# Altium integrated library Linear Technology Power Management Switching Regulator LTC1174-LTC3901.IntLib: 2647 symbols (part 203 of 364)
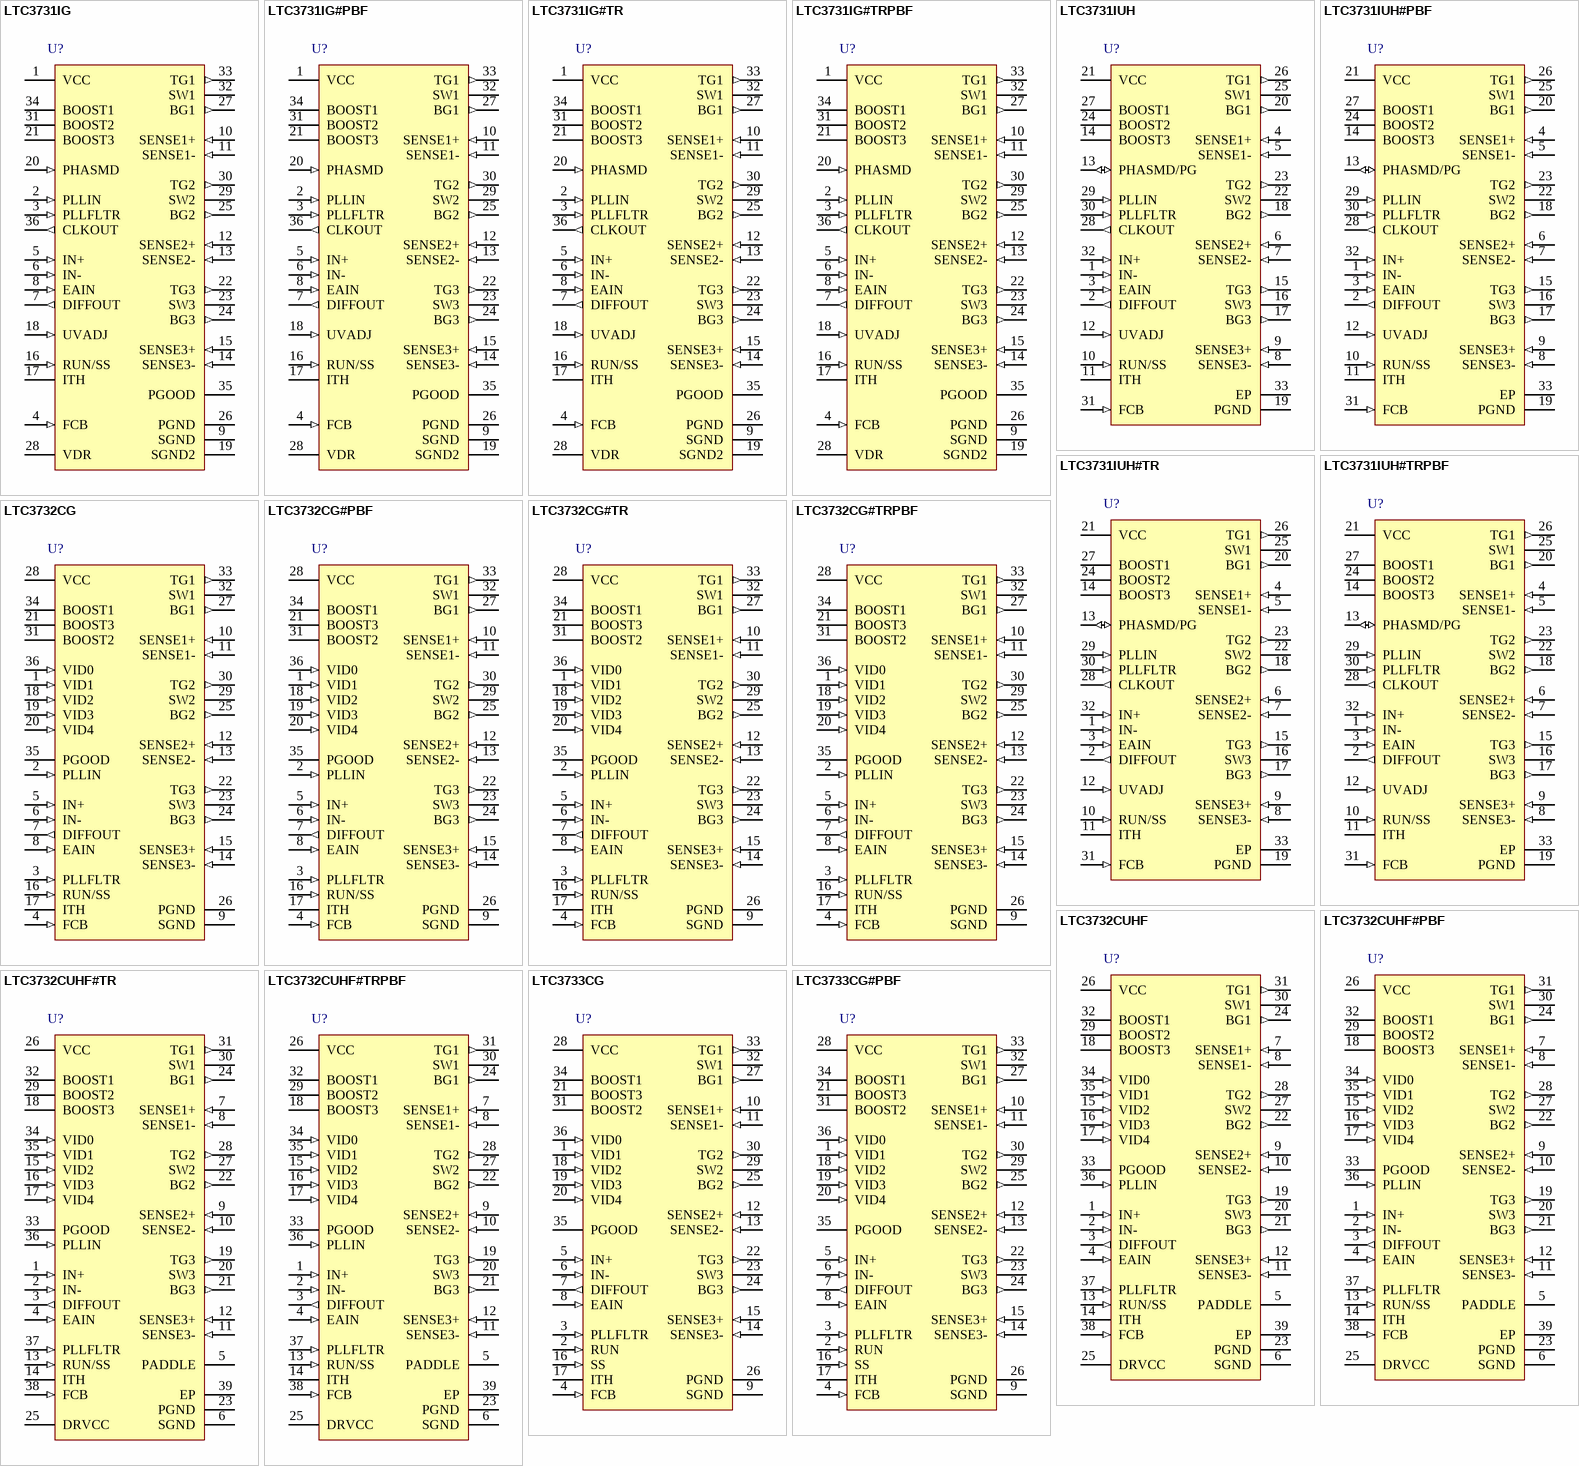
[diagram p220: symbols LTC3731IG to LTC3733CG#PBF]

## LTC3732CUHF#TRPBF
designator U?
3-Phase, 5-Bit VID, 600kHz, Synchronous Buck Switching Regulator Controller, 38-pin QFN (UHF-38), 0 to 70 degC, Pb-Free, Tape and Reel; Manufacturer: Linear Technology; PartNumber: LTC3732CUHF#TRPBF; Frequency Sync Range: 250kHz - 600kHz; Number of Outputs: 1; PackageVersion: Rev. C, 06/2010; PackageReference: UHF-38; PackageDescription: 38-Pin Plastic QFN, Body 7 x 5 mm, Pitch 0.5 mm; Supplier 1: Digi-Key; Supplier Part Number 1: LTC3732CUHF#TRPBF-ND; Supplier 2: Newark; Supplier Part Number 2: 56M8301; Packing: Tape and Reel; RoHS: TRUE; Mounting Technology: Surface Mount; Code_JEDEC: MO-220; ComponentLink1Description: Manufacturer URL; ComponentLink1URL: http://www.linear.com/; ComponentLink2Description: Datasheet; ComponentLink2URL: http://cds.linear.com/docs/en/datasheet/3732f.pdf; ComponentLink3Description: Package Specification; ComponentLink3URL: http://cds.linear.com/docs/en/packaging/QFN_38_05-08-1701.pdf
footprint LT-UHF-38_N (QFN, 38-Leads, Body 7.1x5.1mm, Pitch 0.5mm, Thermal Pad 3.15x5.15mm, IPC Medium Density)
footprint LT-UHF-38_L (QFN, 38-Leads, Body 7.1x5.1mm, Pitch 0.5mm, Thermal Pad 3.15x5.15mm, IPC High Density)
footprint LT-UHF-38_M (QFN, 38-Leads, Body 7.1x5.1mm, Pitch 0.5mm, Thermal Pad 3.15x5.15mm, IPC Low Density)
pins: 1 IN+ (in) "Inputs to a precision, unity-gain differential amplifier with internal precision resistors. This provides true remote sensing of both the positive and negative load terminals for precise output voltage control.", 2 IN- (in) "Inputs to a precision, unity-gain differential amplifier with internal precision resistors. This provides true remote sensing of both the positive and negative load terminals for precise output voltage control.", 3 DIFFOUT (out) "Output of the Remote Output Voltage Sensing Differential Amplifier.", 4 EAIN (in) "This is the input to the error amplifier which compares the VID divided, feedback voltage to the internal 0.6V reference voltage.", 5 PADDLE (power) "This pin is connected to the heat spreading metal pad at the center of the package bottom and is tied to the IC¡¯s substrate. It must be connected to the SGND pin.", 6 SGND (power) "Signal Ground. This pin must be routed separately under the IC to the PGND pin and then to the main ground plane.", 7 SENSE1+ (in) "The Inputs to Each Differential Current Comparator. The ITH pin voltage and built-in offsets between SENSE- and SENSE+ pins, in conjunction with RSENSE, set the current trip threshold level.", 8 SENSE1- (in) "The Inputs to Each Differential Current Comparator. The ITH pin voltage and built-in offsets between SENSE- and SENSE+ pins, in conjunction with RSENSE, set the current trip threshold level.", 9 SENSE2+ (in) "The Inputs to Each Differential Current Comparator. The ITH pin voltage and built-in offsets between SENSE- and SENSE+ pins, in conjunction with RSENSE, set the current trip threshold level.", 10 SENSE2- (in) "The Inputs to Each Differential Current Comparator. The ITH pin voltage and built-in offsets between SENSE- and SENSE+ pins, in conjunction with RSENSE, set the current trip threshold level.", 11 SENSE3- (in) "The Inputs to Each Differential Current Comparator. The ITH pin voltage and built-in offsets between SENSE- and SENSE+ pins, in conjunction with RSENSE, set the current trip threshold level.", 12 SENSE3+ (in) "The Inputs to Each Differential Current Comparator. The ITH pin voltage and built-in offsets between SENSE- and SENSE+ pins, in conjunction with RSENSE, set the current trip threshold level.", 13 RUN/SS (in) "Combination of Soft-Start, Run Control Input and Short-Circuit Detection Timer. A capacitor to ground at this pin sets the ramp time to full current output as well as the time delay prior to an output voltage short-circuit (See Datasheet)", 14 ITH "Error Amplifier Output and Switching Regulator Compensation Point. All three current comparator¡¯s thresholds increase with this control voltage.", 15 VID2 (in) "Output Voltage Programming Input Pins. A 3uA internal pull-up current is provided on each input pin. See Table 1 for details. Do not apply voltage to these pins prior to the application of voltage on the VCC pin.", 16 VID3 (in) "Output Voltage Programming Input Pins. A 3uA internal pull-up current is provided on each input pin. See Table 1 for details. Do not apply voltage to these pins prior to the application of voltage on the VCC pin.", 17 VID4 (in) "Output Voltage Programming Input Pins. A 3uA internal pull-up current is provided on each input pin. See Table 1 for details. Do not apply voltage to these pins prior to the application of voltage on the VCC pin.", 18 BOOST3 "Positive Supply Pins to the Topside Floating Drivers. Bootstrapped capacitors, charged with external Schottky diodes and a boost voltage source, are connected between the BOOST and SW pins. Voltage swing at the BOOST pins is (See Datasheet)", 19 TG3 (out) "High Current Gate Drives for Top N-channel MOSFETs. These are the outputs of floating drivers with a voltage swing equal to the boost voltage source superimposed on the switch node voltage SW.", 20 SW3 "Switch Node Connections to Inductors. Voltage swing at these pins is from a Schottky diode (external) voltage drop below ground to VIN (where VIN is the external MOSFET supply rail).", 21 BG3 (out) "High Current Gate Drives for Bottom NChannel MOSFETs. Voltage swing at these pins is from ground to VCC.", 22 BG2 (out) "High Current Gate Drives for Bottom NChannel MOSFETs. Voltage swing at these pins is from ground to VCC.", 23 PGND (power) "Driver Power Ground. This pin connects directly to the sources of the bottom N-channel external MOSFETs and the (-) terminals of CIN.", 24 BG1 (out) "High Current Gate Drives for Bottom NChannel MOSFETs. Voltage swing at these pins is from ground to VCC.", 25 DRVCC (power) "This pin provides power to the bottom MOSFET on-chip drivers. Tie this pin to the VCC pin and carefully decouple this pin to the PGND pin with a minimum of 5uF of ceramic capacitance immediately adjacent to the IC package.", 26 VCC (power) "Main Supply Pin. Because this pin supplies both the controller circuit power as well as the high power pulses supplied to drive the external MOSFET gates, this pin needs to be very carefully and closely decoupled to the (See Datasheet)", 27 SW2 "Switch Node Connections to Inductors. Voltage swing at these pins is from a Schottky diode (external) voltage drop below ground to VIN (where VIN is the external MOSFET supply rail).", 28 TG2 (out) "High Current Gate Drives for Top N-channel MOSFETs. These are the outputs of floating drivers with a voltage swing equal to the boost voltage source superimposed on the switch node voltage SW.", 29 BOOST2 "Positive Supply Pins to the Topside Floating Drivers. Bootstrapped capacitors, charged with external Schottky diodes and a boost voltage source, are connected between the BOOST and SW pins. Voltage swing at the BOOST pins is (See Datasheet)", 30 SW1 "Switch Node Connections to Inductors. Voltage swing at these pins is from a Schottky diode (external) voltage drop below ground to VIN (where VIN is the external MOSFET supply rail).", 31 TG1 (out) "High Current Gate Drives for Top N-channel MOSFETs. These are the outputs of floating drivers with a voltage swing equal to the boost voltage source superimposed on the switch node voltage SW.", 32 BOOST1 "Positive Supply Pins to the Topside Floating Drivers. Bootstrapped capacitors, charged with external Schottky diodes and a boost voltage source, are connected between the BOOST and SW pins. Voltage swing at the BOOST pins is (See Datasheet)", 33 PGOOD (oc) "This open-drain output is pulled low when the output voltage has been outside the PGOOD tolerance window for the VPGDLY delay of approximately 100us.", 34 VID0 (in) "Output Voltage Programming Input Pins. A 3uA internal pull-up current is provided on each input pin. See Table 1 for details. Do not apply voltage to these pins prior to the application of voltage on the VCC pin.", 35 VID1 (in) "Output Voltage Programming Input Pins. A 3uA internal pull-up current is provided on each input pin. See Table 1 for details. Do not apply voltage to these pins prior to the application of voltage on the VCC pin.", 36 PLLIN (in) "Synchronization Input to Phase Detector. This pin is internally terminated to SGND with 50kohm. The phaselocked loop will force the rising top gate signal of controller 1 to be synchronized with the rising edge of the PLLIN (See Datasheet)", 37 PLLFLTR (in) "The phase-locked loop¡¯s lowpass filter is tied to this pin. Alternatively, this pin can be driven with an AC or DC voltage source to vary the frequency of the internal oscillator. (Do not apply voltage directly to this pi(See Datasheet)", 38 FCB (in) "Forced Continuous Control Input. The voltage applied to this pin sets the operating mode of the controller. The forced continuous current mode is active when the applied voltage is less than 0.6V. Burst Mode operation will (See Datasheet)", 39 EP (power) "Signal Ground. This pin must be routed separately under the IC to the PGND pin and then to the main ground plane."

## LTC3733CG
designator U?
3-Phase, Buck Controller for AMD CPU, 36-pin SOP (G-36), 0 to 70 degC; Manufacturer: Linear Technology; PartNumber: LTC3733CG; Frequency Sync Range: 210kHz - 530kHz; Number of Outputs: 1; PackageReference: G-36; PackageDescription: 36-Pin Plastic SSOP, Body 12.8 x 5.3 mm, Pitch 0.65 mm; Supplier 1: Digi-Key; Supplier Part Number 1: LTC3733CG-ND; RoHS: FALSE; Mounting Technology: Surface Mount; ComponentLink1Description: Manufacturer URL; ComponentLink1URL: http://www.linear.com/; ComponentLink2Description: Datasheet; ComponentLink2URL: http://cds.linear.com/docs/en/datasheet/3733f.pdf; ComponentLink3Description: Package Specification; ComponentLink3URL: http://cds.linear.com/docs/en/packaging/SSOP_36_05-08-1640.pdf
footprint LT-G-36_N (SOP, 36-Leads, Body 13.1x5.6mm, Pitch 0.65mm, IPC Medium Density)
footprint LT-G-36_L (SOP, 36-Leads, Body 13.1x5.6mm, Pitch 0.65mm, IPC High Density)
footprint LT-G-36_M (SOP, 36-Leads, Body 13.1x5.6mm, Pitch 0.65mm, IPC Low Density)
pins: 1 VID1 (in) "Output Voltage Programming Input Pins. A 150k internal pull-up resistor is provided on each input pin. See Table 1 for details. Do not apply voltage to these pins prior to the application of voltage on the VCC pin.", 2 RUN (in) "ON/OFF Control of the LTC3733.", 3 PLLFLTR (in) "The phase-locked loop¡¯s lowpass filter is tied to this pin. Alternatively, this pin can be driven with an AC or DC voltage source to vary the frequency of the internal oscillator. (Do not apply voltage to this pin prior t(See Datasheet)", 4 FCB (in) "Forced Continuous Control Input. The voltage applied to this pin sets the operating mode of the controller. The forced continuous current mode is active when the applied voltage is less than 0.6V. Burst Mode operation will (See Datasheet)", 5 IN+ (in) "Inputs to a precision, unitygain differential amplifier with internal precision resistors. This provides true remote sensing of both the positive and negative load terminals for precise output voltage control.", 6 IN- (in) "Inputs to a precision, unitygain differential amplifier with internal precision resistors. This provides true remote sensing of both the positive and negative load terminals for precise output voltage control.", 7 DIFFOUT (out) "Output of the Remote Output Voltage Sensing Differential Amplifier.", 8 EAIN (in) "This is the input to the error amplifier which compares the VID divided, feedback voltage to the internal 0.6V reference voltage.", 9 SGND (power) "Signal Ground. This pin must be routed separately under the IC to the PGND pin and then to the main ground plane. The exposed pad (QFN) must be soldered to the PCB for optimal thermal performance.", 10 SENSE1+ (in) "The Inputs to Each Differential Current Comparator. The ITH pin voltage and built-in offsets between SENSE- and SENSE+ pins, in conjunction with RSENSE, set the current trip threshold level.", 11 SENSE1- (in) "The Inputs to Each Differential Current Comparator. The ITH pin voltage and built-in offsets between SENSE- and SENSE+ pins, in conjunction with RSENSE, set the current trip threshold level.", 12 SENSE2+ (in) "The Inputs to Each Differential Current Comparator. The ITH pin voltage and built-in offsets between SENSE- and SENSE+ pins, in conjunction with RSENSE, set the current trip threshold level.", 13 SENSE2- (in) "The Inputs to Each Differential Current Comparator. The ITH pin voltage and built-in offsets between SENSE- and SENSE+ pins, in conjunction with RSENSE, set the current trip threshold level.", 14 SENSE3- (in) "The Inputs to Each Differential Current Comparator. The ITH pin voltage and built-in offsets between SENSE- and SENSE+ pins, in conjunction with RSENSE, set the current trip threshold level.", 15 SENSE3+ (in) "The Inputs to Each Differential Current Comparator. The ITH pin voltage and built-in offsets between SENSE- and SENSE+ pins, in conjunction with RSENSE, set the current trip threshold level.", 16 SS (in) "Combination of Soft-Start and Short- Circuit Detection Timer. A capacitor to ground at this pin sets the ramp time to full current output as well as the time delay prior to an output voltage short-circuit shutdown. A minimum (See Datasheet)", 17 ITH "Error Amplifier Output and Switching Regulator Compensation Point. All three current comparator¡¯s thresholds increase with this control voltage.", 18 VID2 (in) "Output Voltage Programming Input Pins. A 150k internal pull-up resistor is provided on each input pin. See Table 1 for details. Do not apply voltage to these pins prior to the application of voltage on the VCC pin.", 19 VID3 (in) "Output Voltage Programming Input Pins. A 150k internal pull-up resistor is provided on each input pin. See Table 1 for details. Do not apply voltage to these pins prior to the application of voltage on the VCC pin.", 20 VID4 (in) "Output Voltage Programming Input Pins. A 150k internal pull-up resistor is provided on each input pin. See Table 1 for details. Do not apply voltage to these pins prior to the application of voltage on the VCC pin.", 21 BOOST3 "Positive Supply Pins to the Topside Floating Drivers. Bootstrapped capacitors, charged with external Schottky diodes and a boost voltage source, are connected between the BOOST and SW pins. Voltage swing at the BOOST pins is (See Datasheet)", 22 TG3 (out) "High Current Gate Drives for Top N-channel MOSFETs. These are the outputs of floating drivers with a voltage swing equal to the boost voltage source superimposed on the switch node voltage SW.", 23 SW3 "Switch Node Connections to Inductors. Voltage swing at these pins is from a Schottky diode (external) voltage drop below ground to VIN (where VIN is the external MOSFET supply rail).", 24 BG3 (out) "High Current Gate Drives for Bottom N-Channel MOSFETs. Voltage swing at these pins is from ground to VCC.", 25 BG2 (out) "High Current Gate Drives for Bottom N-Channel MOSFETs. Voltage swing at these pins is from ground to VCC.", 26 PGND (power) "Driver Power Ground. This pin connects to the sources of the bottom N-channel external MOSFETs and the (-) terminals of CIN.", 27 BG1 (out) "High Current Gate Drives for Bottom N-Channel MOSFETs. Voltage swing at these pins is from ground to VCC.", 28 VCC (power) "Main Supply Pin. This pin supplies the controller circuit power. In the G36 package, it is also the high power supply to drive the external MOSFET gates and this pin needs to be closely decoupled to the IC¡¯s PGND pin.", 29 SW2 "Switch Node Connections to Inductors. Voltage swing at these pins is from a Schottky diode (external) voltage drop below ground to VIN (where VIN is the external MOSFET supply rail).", 30 TG2 (out) "High Current Gate Drives for Top N-channel MOSFETs. These are the outputs of floating drivers with a voltage swing equal to the boost voltage source superimposed on the switch node voltage SW.", 31 BOOST2 "Positive Supply Pins to the Topside Floating Drivers. Bootstrapped capacitors, charged with external Schottky diodes and a boost voltage source, are connected between the BOOST and SW pins. Voltage swing at the BOOST pins is (See Datasheet)", 32 SW1 "Switch Node Connections to Inductors. Voltage swing at these pins is from a Schottky diode (external) voltage drop below ground to VIN (where VIN is the external MOSFET supply rail).", 33 TG1 (out) "High Current Gate Drives for Top N-channel MOSFETs. These are the outputs of floating drivers with a voltage swing equal to the boost voltage source superimposed on the switch node voltage SW.", 34 BOOST1 "Positive Supply Pins to the Topside Floating Drivers. Bootstrapped capacitors, charged with external Schottky diodes and a boost voltage source, are connected between the BOOST and SW pins. Voltage swing at the BOOST pins is (See Datasheet)", 35 PGOOD (oc) "This open-drain output is pulled low when the output voltage is outside the PGOOD tolerance window. PGOOD is blanked during VID transitions for approximately 120us.", 36 VID0 (in) "Output Voltage Programming Input Pins. A 150k internal pull-up resistor is provided on each input pin. See Table 1 for details. Do not apply voltage to these pins prior to the application of voltage on the VCC pin."

## LTC3733CG#PBF
designator U?
3-Phase, Buck Controller for AMD CPU, 36-pin SOP (G-36), 0 to 70 degC, Pb-Free; Manufacturer: Linear Technology; PartNumber: LTC3733CG#PBF; Frequency Sync Range: 210kHz - 530kHz; Number of Outputs: 1; PackageReference: G-36; PackageDescription: 36-Pin Plastic SSOP, Body 12.8 x 5.3 mm, Pitch 0.65 mm; Supplier 1: Digi-Key; Supplier Part Number 1: LTC3733CG#PBF-ND; Supplier 2: Newark; Supplier Part Number 2: 56M8303; RoHS: TRUE; Mounting Technology: Surface Mount; ComponentLink1Description: Manufacturer URL; ComponentLink1URL: http://www.linear.com/; ComponentLink2Description: Datasheet; ComponentLink2URL: http://cds.linear.com/docs/en/datasheet/3733f.pdf; ComponentLink3Description: Package Specification; ComponentLink3URL: http://cds.linear.com/docs/en/packaging/SSOP_36_05-08-1640.pdf
footprint LT-G-36_N (SOP, 36-Leads, Body 13.1x5.6mm, Pitch 0.65mm, IPC Medium Density)
footprint LT-G-36_L (SOP, 36-Leads, Body 13.1x5.6mm, Pitch 0.65mm, IPC High Density)
footprint LT-G-36_M (SOP, 36-Leads, Body 13.1x5.6mm, Pitch 0.65mm, IPC Low Density)
pins: 1 VID1 (in) "Output Voltage Programming Input Pins. A 150k internal pull-up resistor is provided on each input pin. See Table 1 for details. Do not apply voltage to these pins prior to the application of voltage on the VCC pin.", 2 RUN (in) "ON/OFF Control of the LTC3733.", 3 PLLFLTR (in) "The phase-locked loop¡¯s lowpass filter is tied to this pin. Alternatively, this pin can be driven with an AC or DC voltage source to vary the frequency of the internal oscillator. (Do not apply voltage to this pin prior t(See Datasheet)", 4 FCB (in) "Forced Continuous Control Input. The voltage applied to this pin sets the operating mode of the controller. The forced continuous current mode is active when the applied voltage is less than 0.6V. Burst Mode operation will (See Datasheet)", 5 IN+ (in) "Inputs to a precision, unitygain differential amplifier with internal precision resistors. This provides true remote sensing of both the positive and negative load terminals for precise output voltage control.", 6 IN- (in) "Inputs to a precision, unitygain differential amplifier with internal precision resistors. This provides true remote sensing of both the positive and negative load terminals for precise output voltage control.", 7 DIFFOUT (out) "Output of the Remote Output Voltage Sensing Differential Amplifier.", 8 EAIN (in) "This is the input to the error amplifier which compares the VID divided, feedback voltage to the internal 0.6V reference voltage.", 9 SGND (power) "Signal Ground. This pin must be routed separately under the IC to the PGND pin and then to the main ground plane. The exposed pad (QFN) must be soldered to the PCB for optimal thermal performance.", 10 SENSE1+ (in) "The Inputs to Each Differential Current Comparator. The ITH pin voltage and built-in offsets between SENSE- and SENSE+ pins, in conjunction with RSENSE, set the current trip threshold level.", 11 SENSE1- (in) "The Inputs to Each Differential Current Comparator. The ITH pin voltage and built-in offsets between SENSE- and SENSE+ pins, in conjunction with RSENSE, set the current trip threshold level.", 12 SENSE2+ (in) "The Inputs to Each Differential Current Comparator. The ITH pin voltage and built-in offsets between SENSE- and SENSE+ pins, in conjunction with RSENSE, set the current trip threshold level.", 13 SENSE2- (in) "The Inputs to Each Differential Current Comparator. The ITH pin voltage and built-in offsets between SENSE- and SENSE+ pins, in conjunction with RSENSE, set the current trip threshold level.", 14 SENSE3- (in) "The Inputs to Each Differential Current Comparator. The ITH pin voltage and built-in offsets between SENSE- and SENSE+ pins, in conjunction with RSENSE, set the current trip threshold level.", 15 SENSE3+ (in) "The Inputs to Each Differential Current Comparator. The ITH pin voltage and built-in offsets between SENSE- and SENSE+ pins, in conjunction with RSENSE, set the current trip threshold level.", 16 SS (in) "Combination of Soft-Start and Short- Circuit Detection Timer. A capacitor to ground at this pin sets the ramp time to full current output as well as the time delay prior to an output voltage short-circuit shutdown. A minimum (See Datasheet)", 17 ITH "Error Amplifier Output and Switching Regulator Compensation Point. All three current comparator¡¯s thresholds increase with this control voltage.", 18 VID2 (in) "Output Voltage Programming Input Pins. A 150k internal pull-up resistor is provided on each input pin. See Table 1 for details. Do not apply voltage to these pins prior to the application of voltage on the VCC pin.", 19 VID3 (in) "Output Voltage Programming Input Pins. A 150k internal pull-up resistor is provided on each input pin. See Table 1 for details. Do not apply voltage to these pins prior to the application of voltage on the VCC pin.", 20 VID4 (in) "Output Voltage Programming Input Pins. A 150k internal pull-up resistor is provided on each input pin. See Table 1 for details. Do not apply voltage to these pins prior to the application of voltage on the VCC pin.", 21 BOOST3 "Positive Supply Pins to the Topside Floating Drivers. Bootstrapped capacitors, charged with external Schottky diodes and a boost voltage source, are connected between the BOOST and SW pins. Voltage swing at the BOOST pins is (See Datasheet)", 22 TG3 (out) "High Current Gate Drives for Top N-channel MOSFETs. These are the outputs of floating drivers with a voltage swing equal to the boost voltage source superimposed on the switch node voltage SW.", 23 SW3 "Switch Node Connections to Inductors. Voltage swing at these pins is from a Schottky diode (external) voltage drop below ground to VIN (where VIN is the external MOSFET supply rail).", 24 BG3 (out) "High Current Gate Drives for Bottom N-Channel MOSFETs. Voltage swing at these pins is from ground to VCC.", 25 BG2 (out) "High Current Gate Drives for Bottom N-Channel MOSFETs. Voltage swing at these pins is from ground to VCC.", 26 PGND (power) "Driver Power Ground. This pin connects to the sources of the bottom N-channel external MOSFETs and the (-) terminals of CIN.", 27 BG1 (out) "High Current Gate Drives for Bottom N-Channel MOSFETs. Voltage swing at these pins is from ground to VCC.", 28 VCC (power) "Main Supply Pin. This pin supplies the controller circuit power. In the G36 package, it is also the high power supply to drive the external MOSFET gates and this pin needs to be closely decoupled to the IC¡¯s PGND pin.", 29 SW2 "Switch Node Connections to Inductors. Voltage swing at these pins is from a Schottky diode (external) voltage drop below ground to VIN (where VIN is the external MOSFET supply rail).", 30 TG2 (out) "High Current Gate Drives for Top N-channel MOSFETs. These are the outputs of floating drivers with a voltage swing equal to the boost voltage source superimposed on the switch node voltage SW.", 31 BOOST2 "Positive Supply Pins to the Topside Floating Drivers. Bootstrapped capacitors, charged with external Schottky diodes and a boost voltage source, are connected between the BOOST and SW pins. Voltage swing at the BOOST pins is (See Datasheet)", 32 SW1 "Switch Node Connections to Inductors. Voltage swing at these pins is from a Schottky diode (external) voltage drop below ground to VIN (where VIN is the external MOSFET supply rail).", 33 TG1 (out) "High Current Gate Drives for Top N-channel MOSFETs. These are the outputs of floating drivers with a voltage swing equal to the boost voltage source superimposed on the switch node voltage SW.", 34 BOOST1 "Positive Supply Pins to the Topside Floating Drivers. Bootstrapped capacitors, charged with external Schottky diodes and a boost voltage source, are connected between the BOOST and SW pins. Voltage swing at the BOOST pins is (See Datasheet)", 35 PGOOD (oc) "This open-drain output is pulled low when the output voltage is outside the PGOOD tolerance window. PGOOD is blanked during VID transitions for approximately 120us.", 36 VID0 (in) "Output Voltage Programming Input Pins. A 150k internal pull-up resistor is provided on each input pin. See Table 1 for details. Do not apply voltage to these pins prior to the application of voltage on the VCC pin."

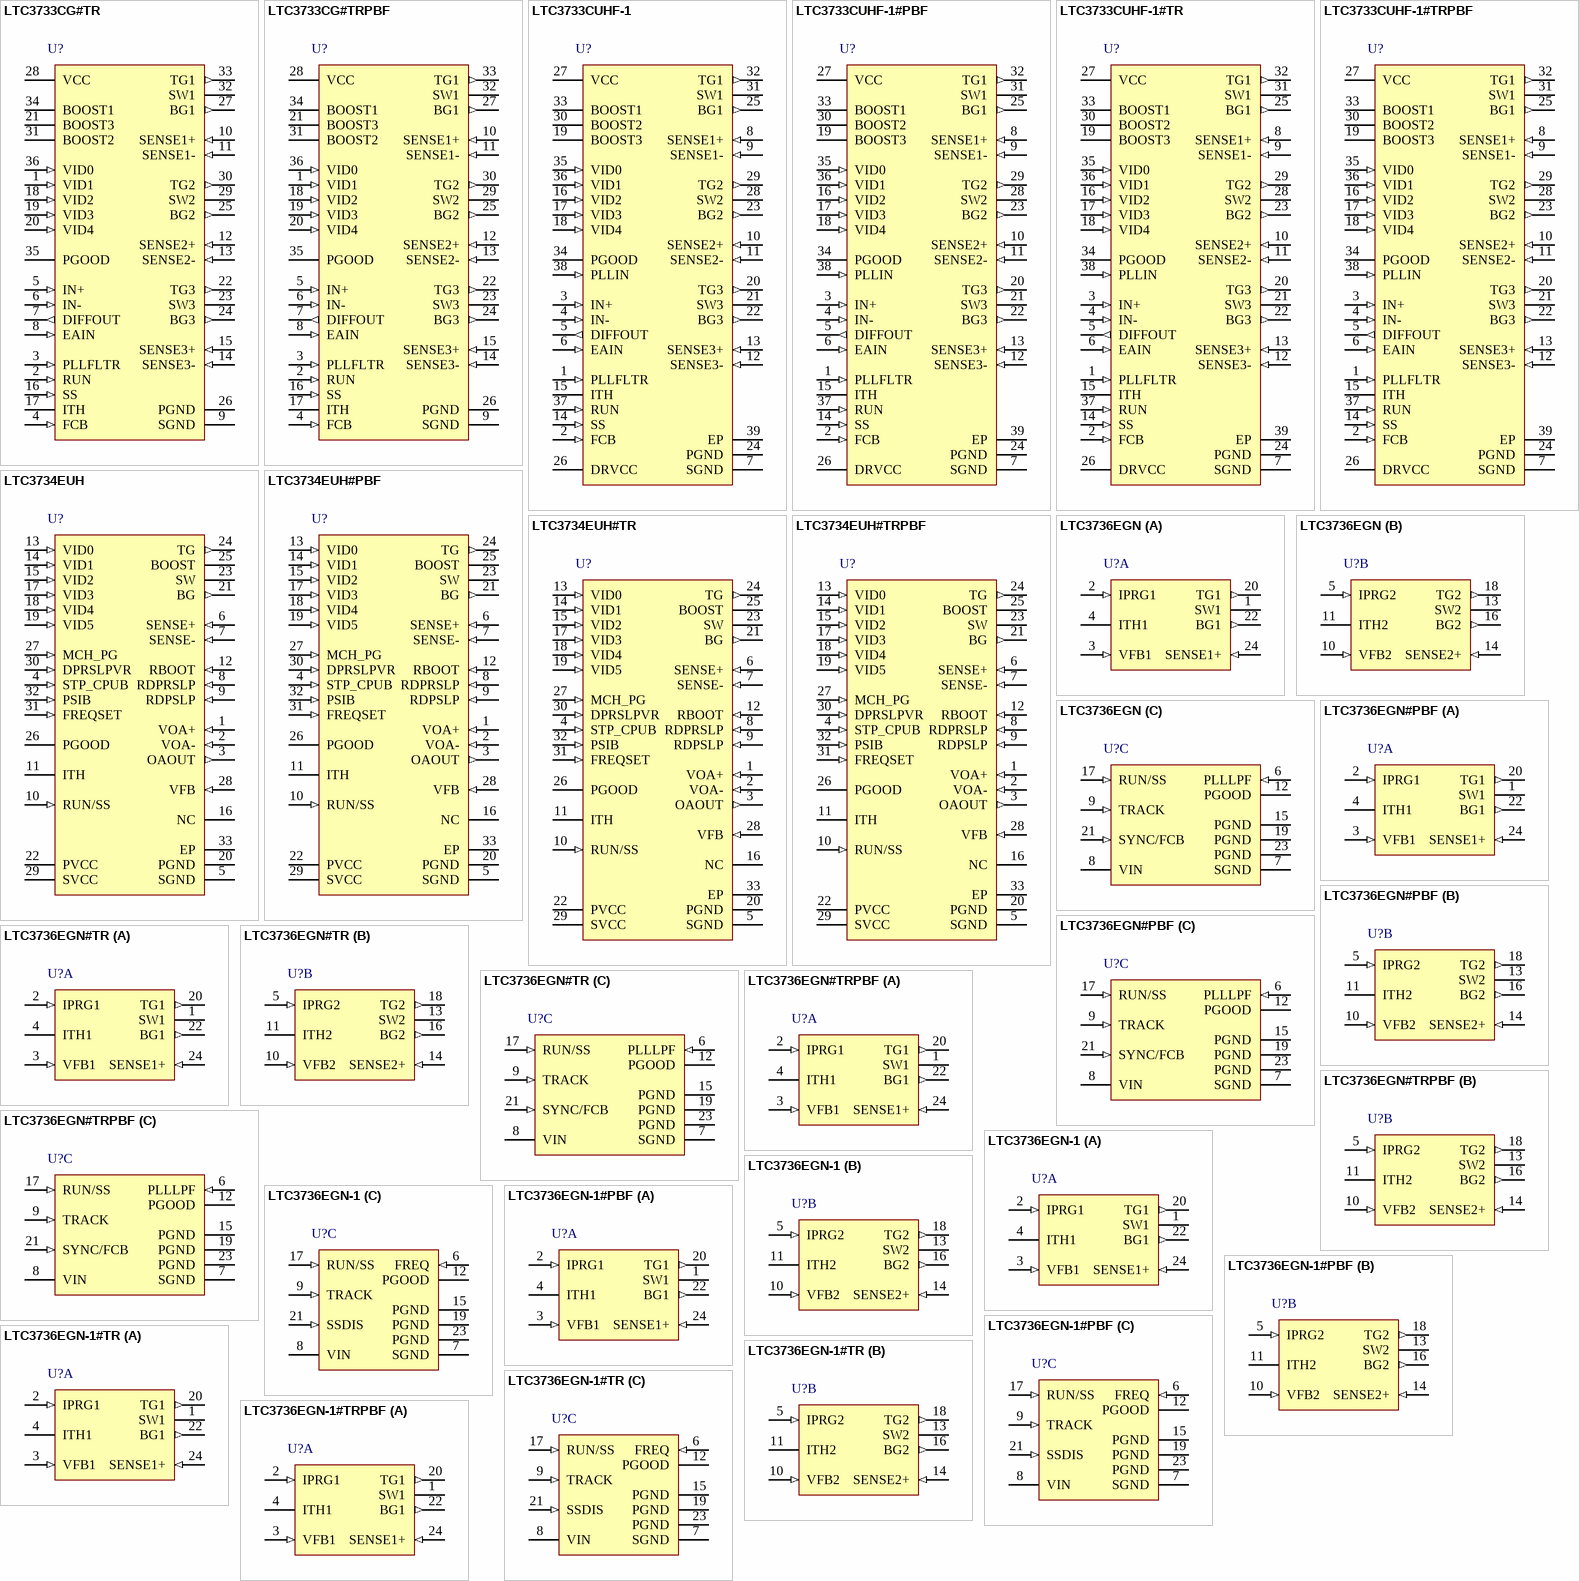
[diagram p64: symbols LTC3733CG#TR to LTC3736EGN-1#TRPBF]

## LTC3733CG#TR
designator U?
3-Phase, Buck Controller for AMD CPU, 36-pin SOP (G-36), 0 to 70 degC, Tape and Reel; Manufacturer: Linear Technology; PartNumber: LTC3733CG#TR; Frequency Sync Range: 210kHz - 530kHz; Number of Outputs: 1; PackageReference: G-36; PackageDescription: 36-Pin Plastic SSOP, Body 12.8 x 5.3 mm, Pitch 0.65 mm; Supplier 1: Digi-Key; Supplier Part Number 1: LTC3733CG#TR-ND; Packing: Tape and Reel; RoHS: FALSE; Mounting Technology: Surface Mount; ComponentLink1Description: Manufacturer URL; ComponentLink1URL: http://www.linear.com/; ComponentLink2Description: Datasheet; ComponentLink2URL: http://cds.linear.com/docs/en/datasheet/3733f.pdf; ComponentLink3Description: Package Specification; ComponentLink3URL: http://cds.linear.com/docs/en/packaging/SSOP_36_05-08-1640.pdf
footprint LT-G-36_N (SOP, 36-Leads, Body 13.1x5.6mm, Pitch 0.65mm, IPC Medium Density)
footprint LT-G-36_L (SOP, 36-Leads, Body 13.1x5.6mm, Pitch 0.65mm, IPC High Density)
footprint LT-G-36_M (SOP, 36-Leads, Body 13.1x5.6mm, Pitch 0.65mm, IPC Low Density)
pins: 1 VID1 (in) "Output Voltage Programming Input Pins. A 150k internal pull-up resistor is provided on each input pin. See Table 1 for details. Do not apply voltage to these pins prior to the application of voltage on the VCC pin.", 2 RUN (in) "ON/OFF Control of the LTC3733.", 3 PLLFLTR (in) "The phase-locked loop¡¯s lowpass filter is tied to this pin. Alternatively, this pin can be driven with an AC or DC voltage source to vary the frequency of the internal oscillator. (Do not apply voltage to this pin prior t(See Datasheet)", 4 FCB (in) "Forced Continuous Control Input. The voltage applied to this pin sets the operating mode of the controller. The forced continuous current mode is active when the applied voltage is less than 0.6V. Burst Mode operation will (See Datasheet)", 5 IN+ (in) "Inputs to a precision, unitygain differential amplifier with internal precision resistors. This provides true remote sensing of both the positive and negative load terminals for precise output voltage control.", 6 IN- (in) "Inputs to a precision, unitygain differential amplifier with internal precision resistors. This provides true remote sensing of both the positive and negative load terminals for precise output voltage control.", 7 DIFFOUT (out) "Output of the Remote Output Voltage Sensing Differential Amplifier.", 8 EAIN (in) "This is the input to the error amplifier which compares the VID divided, feedback voltage to the internal 0.6V reference voltage.", 9 SGND (power) "Signal Ground. This pin must be routed separately under the IC to the PGND pin and then to the main ground plane. The exposed pad (QFN) must be soldered to the PCB for optimal thermal performance.", 10 SENSE1+ (in) "The Inputs to Each Differential Current Comparator. The ITH pin voltage and built-in offsets between SENSE- and SENSE+ pins, in conjunction with RSENSE, set the current trip threshold level.", 11 SENSE1- (in) "The Inputs to Each Differential Current Comparator. The ITH pin voltage and built-in offsets between SENSE- and SENSE+ pins, in conjunction with RSENSE, set the current trip threshold level.", 12 SENSE2+ (in) "The Inputs to Each Differential Current Comparator. The ITH pin voltage and built-in offsets between SENSE- and SENSE+ pins, in conjunction with RSENSE, set the current trip threshold level.", 13 SENSE2- (in) "The Inputs to Each Differential Current Comparator. The ITH pin voltage and built-in offsets between SENSE- and SENSE+ pins, in conjunction with RSENSE, set the current trip threshold level.", 14 SENSE3- (in) "The Inputs to Each Differential Current Comparator. The ITH pin voltage and built-in offsets between SENSE- and SENSE+ pins, in conjunction with RSENSE, set the current trip threshold level.", 15 SENSE3+ (in) "The Inputs to Each Differential Current Comparator. The ITH pin voltage and built-in offsets between SENSE- and SENSE+ pins, in conjunction with RSENSE, set the current trip threshold level.", 16 SS (in) "Combination of Soft-Start and Short- Circuit Detection Timer. A capacitor to ground at this pin sets the ramp time to full current output as well as the time delay prior to an output voltage short-circuit shutdown. A minimum (See Datasheet)", 17 ITH "Error Amplifier Output and Switching Regulator Compensation Point. All three current comparator¡¯s thresholds increase with this control voltage.", 18 VID2 (in) "Output Voltage Programming Input Pins. A 150k internal pull-up resistor is provided on each input pin. See Table 1 for details. Do not apply voltage to these pins prior to the application of voltage on the VCC pin.", 19 VID3 (in) "Output Voltage Programming Input Pins. A 150k internal pull-up resistor is provided on each input pin. See Table 1 for details. Do not apply voltage to these pins prior to the application of voltage on the VCC pin.", 20 VID4 (in) "Output Voltage Programming Input Pins. A 150k internal pull-up resistor is provided on each input pin. See Table 1 for details. Do not apply voltage to these pins prior to the application of voltage on the VCC pin.", 21 BOOST3 "Positive Supply Pins to the Topside Floating Drivers. Bootstrapped capacitors, charged with external Schottky diodes and a boost voltage source, are connected between the BOOST and SW pins. Voltage swing at the BOOST pins is (See Datasheet)", 22 TG3 (out) "High Current Gate Drives for Top N-channel MOSFETs. These are the outputs of floating drivers with a voltage swing equal to the boost voltage source superimposed on the switch node voltage SW.", 23 SW3 "Switch Node Connections to Inductors. Voltage swing at these pins is from a Schottky diode (external) voltage drop below ground to VIN (where VIN is the external MOSFET supply rail).", 24 BG3 (out) "High Current Gate Drives for Bottom N-Channel MOSFETs. Voltage swing at these pins is from ground to VCC.", 25 BG2 (out) "High Current Gate Drives for Bottom N-Channel MOSFETs. Voltage swing at these pins is from ground to VCC.", 26 PGND (power) "Driver Power Ground. This pin connects to the sources of the bottom N-channel external MOSFETs and the (-) terminals of CIN.", 27 BG1 (out) "High Current Gate Drives for Bottom N-Channel MOSFETs. Voltage swing at these pins is from ground to VCC.", 28 VCC (power) "Main Supply Pin. This pin supplies the controller circuit power. In the G36 package, it is also the high power supply to drive the external MOSFET gates and this pin needs to be closely decoupled to the IC¡¯s PGND pin.", 29 SW2 "Switch Node Connections to Inductors. Voltage swing at these pins is from a Schottky diode (external) voltage drop below ground to VIN (where VIN is the external MOSFET supply rail).", 30 TG2 (out) "High Current Gate Drives for Top N-channel MOSFETs. These are the outputs of floating drivers with a voltage swing equal to the boost voltage source superimposed on the switch node voltage SW.", 31 BOOST2 "Positive Supply Pins to the Topside Floating Drivers. Bootstrapped capacitors, charged with external Schottky diodes and a boost voltage source, are connected between the BOOST and SW pins. Voltage swing at the BOOST pins is (See Datasheet)", 32 SW1 "Switch Node Connections to Inductors. Voltage swing at these pins is from a Schottky diode (external) voltage drop below ground to VIN (where VIN is the external MOSFET supply rail).", 33 TG1 (out) "High Current Gate Drives for Top N-channel MOSFETs. These are the outputs of floating drivers with a voltage swing equal to the boost voltage source superimposed on the switch node voltage SW.", 34 BOOST1 "Positive Supply Pins to the Topside Floating Drivers. Bootstrapped capacitors, charged with external Schottky diodes and a boost voltage source, are connected between the BOOST and SW pins. Voltage swing at the BOOST pins is (See Datasheet)", 35 PGOOD (oc) "This open-drain output is pulled low when the output voltage is outside the PGOOD tolerance window. PGOOD is blanked during VID transitions for approximately 120us.", 36 VID0 (in) "Output Voltage Programming Input Pins. A 150k internal pull-up resistor is provided on each input pin. See Table 1 for details. Do not apply voltage to these pins prior to the application of voltage on the VCC pin."

## LTC3733CG#TRPBF
designator U?
3-Phase, Buck Controller for AMD CPU, 36-pin SOP (G-36), 0 to 70 degC, Pb-Free, Tape and Reel; Manufacturer: Linear Technology; PartNumber: LTC3733CG#TRPBF; Frequency Sync Range: 210kHz - 530kHz; Number of Outputs: 1; PackageReference: G-36; PackageDescription: 36-Pin Plastic SSOP, Body 12.8 x 5.3 mm, Pitch 0.65 mm; Supplier 1: Digi-Key; Supplier Part Number 1: LTC3733CG#TRPBF-ND; Packing: Tape and Reel; RoHS: TRUE; Mounting Technology: Surface Mount; ComponentLink1Description: Manufacturer URL; ComponentLink1URL: http://www.linear.com/; ComponentLink2Description: Datasheet; ComponentLink2URL: http://cds.linear.com/docs/en/datasheet/3733f.pdf; ComponentLink3Description: Package Specification; ComponentLink3URL: http://cds.linear.com/docs/en/packaging/SSOP_36_05-08-1640.pdf
footprint LT-G-36_N (SOP, 36-Leads, Body 13.1x5.6mm, Pitch 0.65mm, IPC Medium Density)
footprint LT-G-36_L (SOP, 36-Leads, Body 13.1x5.6mm, Pitch 0.65mm, IPC High Density)
footprint LT-G-36_M (SOP, 36-Leads, Body 13.1x5.6mm, Pitch 0.65mm, IPC Low Density)
pins: 1 VID1 (in) "Output Voltage Programming Input Pins. A 150k internal pull-up resistor is provided on each input pin. See Table 1 for details. Do not apply voltage to these pins prior to the application of voltage on the VCC pin.", 2 RUN (in) "ON/OFF Control of the LTC3733.", 3 PLLFLTR (in) "The phase-locked loop¡¯s lowpass filter is tied to this pin. Alternatively, this pin can be driven with an AC or DC voltage source to vary the frequency of the internal oscillator. (Do not apply voltage to this pin prior t(See Datasheet)", 4 FCB (in) "Forced Continuous Control Input. The voltage applied to this pin sets the operating mode of the controller. The forced continuous current mode is active when the applied voltage is less than 0.6V. Burst Mode operation will (See Datasheet)", 5 IN+ (in) "Inputs to a precision, unitygain differential amplifier with internal precision resistors. This provides true remote sensing of both the positive and negative load terminals for precise output voltage control.", 6 IN- (in) "Inputs to a precision, unitygain differential amplifier with internal precision resistors. This provides true remote sensing of both the positive and negative load terminals for precise output voltage control.", 7 DIFFOUT (out) "Output of the Remote Output Voltage Sensing Differential Amplifier.", 8 EAIN (in) "This is the input to the error amplifier which compares the VID divided, feedback voltage to the internal 0.6V reference voltage.", 9 SGND (power) "Signal Ground. This pin must be routed separately under the IC to the PGND pin and then to the main ground plane. The exposed pad (QFN) must be soldered to the PCB for optimal thermal performance.", 10 SENSE1+ (in) "The Inputs to Each Differential Current Comparator. The ITH pin voltage and built-in offsets between SENSE- and SENSE+ pins, in conjunction with RSENSE, set the current trip threshold level.", 11 SENSE1- (in) "The Inputs to Each Differential Current Comparator. The ITH pin voltage and built-in offsets between SENSE- and SENSE+ pins, in conjunction with RSENSE, set the current trip threshold level.", 12 SENSE2+ (in) "The Inputs to Each Differential Current Comparator. The ITH pin voltage and built-in offsets between SENSE- and SENSE+ pins, in conjunction with RSENSE, set the current trip threshold level.", 13 SENSE2- (in) "The Inputs to Each Differential Current Comparator. The ITH pin voltage and built-in offsets between SENSE- and SENSE+ pins, in conjunction with RSENSE, set the current trip threshold level.", 14 SENSE3- (in) "The Inputs to Each Differential Current Comparator. The ITH pin voltage and built-in offsets between SENSE- and SENSE+ pins, in conjunction with RSENSE, set the current trip threshold level.", 15 SENSE3+ (in) "The Inputs to Each Differential Current Comparator. The ITH pin voltage and built-in offsets between SENSE- and SENSE+ pins, in conjunction with RSENSE, set the current trip threshold level.", 16 SS (in) "Combination of Soft-Start and Short- Circuit Detection Timer. A capacitor to ground at this pin sets the ramp time to full current output as well as the time delay prior to an output voltage short-circuit shutdown. A minimum (See Datasheet)", 17 ITH "Error Amplifier Output and Switching Regulator Compensation Point. All three current comparator¡¯s thresholds increase with this control voltage.", 18 VID2 (in) "Output Voltage Programming Input Pins. A 150k internal pull-up resistor is provided on each input pin. See Table 1 for details. Do not apply voltage to these pins prior to the application of voltage on the VCC pin.", 19 VID3 (in) "Output Voltage Programming Input Pins. A 150k internal pull-up resistor is provided on each input pin. See Table 1 for details. Do not apply voltage to these pins prior to the application of voltage on the VCC pin.", 20 VID4 (in) "Output Voltage Programming Input Pins. A 150k internal pull-up resistor is provided on each input pin. See Table 1 for details. Do not apply voltage to these pins prior to the application of voltage on the VCC pin.", 21 BOOST3 "Positive Supply Pins to the Topside Floating Drivers. Bootstrapped capacitors, charged with external Schottky diodes and a boost voltage source, are connected between the BOOST and SW pins. Voltage swing at the BOOST pins is (See Datasheet)", 22 TG3 (out) "High Current Gate Drives for Top N-channel MOSFETs. These are the outputs of floating drivers with a voltage swing equal to the boost voltage source superimposed on the switch node voltage SW.", 23 SW3 "Switch Node Connections to Inductors. Voltage swing at these pins is from a Schottky diode (external) voltage drop below ground to VIN (where VIN is the external MOSFET supply rail).", 24 BG3 (out) "High Current Gate Drives for Bottom N-Channel MOSFETs. Voltage swing at these pins is from ground to VCC.", 25 BG2 (out) "High Current Gate Drives for Bottom N-Channel MOSFETs. Voltage swing at these pins is from ground to VCC.", 26 PGND (power) "Driver Power Ground. This pin connects to the sources of the bottom N-channel external MOSFETs and the (-) terminals of CIN.", 27 BG1 (out) "High Current Gate Drives for Bottom N-Channel MOSFETs. Voltage swing at these pins is from ground to VCC.", 28 VCC (power) "Main Supply Pin. This pin supplies the controller circuit power. In the G36 package, it is also the high power supply to drive the external MOSFET gates and this pin needs to be closely decoupled to the IC¡¯s PGND pin.", 29 SW2 "Switch Node Connections to Inductors. Voltage swing at these pins is from a Schottky diode (external) voltage drop below ground to VIN (where VIN is the external MOSFET supply rail).", 30 TG2 (out) "High Current Gate Drives for Top N-channel MOSFETs. These are the outputs of floating drivers with a voltage swing equal to the boost voltage source superimposed on the switch node voltage SW.", 31 BOOST2 "Positive Supply Pins to the Topside Floating Drivers. Bootstrapped capacitors, charged with external Schottky diodes and a boost voltage source, are connected between the BOOST and SW pins. Voltage swing at the BOOST pins is (See Datasheet)", 32 SW1 "Switch Node Connections to Inductors. Voltage swing at these pins is from a Schottky diode (external) voltage drop below ground to VIN (where VIN is the external MOSFET supply rail).", 33 TG1 (out) "High Current Gate Drives for Top N-channel MOSFETs. These are the outputs of floating drivers with a voltage swing equal to the boost voltage source superimposed on the switch node voltage SW.", 34 BOOST1 "Positive Supply Pins to the Topside Floating Drivers. Bootstrapped capacitors, charged with external Schottky diodes and a boost voltage source, are connected between the BOOST and SW pins. Voltage swing at the BOOST pins is (See Datasheet)", 35 PGOOD (oc) "This open-drain output is pulled low when the output voltage is outside the PGOOD tolerance window. PGOOD is blanked during VID transitions for approximately 120us.", 36 VID0 (in) "Output Voltage Programming Input Pins. A 150k internal pull-up resistor is provided on each input pin. See Table 1 for details. Do not apply voltage to these pins prior to the application of voltage on the VCC pin."